# Altium footprint library Keypad 3x4.PcbLib: 1 footprints
Each footprint in its own frame and in the unit in brackets; x right, y up, seen from the top. Pads: shape width x height; smd on the part's side, far side on the other; paste and mask are expansions set on the pad; w line width, h text height; cw(c..) or ccw(c..) is an arc to the next point about the centre after c.
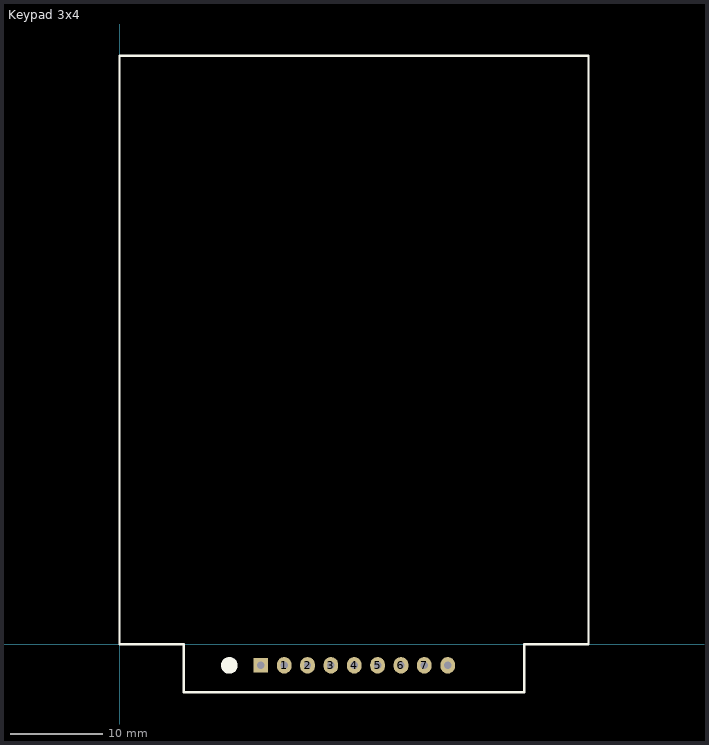
[diagram p0: the footprint, top view; thin cyan lines are the x and y axes]

## Keypad 3x4 [mm]
pads (9):
  oval 1.6x1.8 hole 0.8: 1(17.907,-2.286) 2(20.447,-2.286) 3(22.987,-2.286) 4(25.527,-2.286) 5(28.067,-2.286) 6(30.607,-2.286) 7(33.147,-2.286) ""(35.687,-2.286)
  rect 1.6x1.6 hole 0.8: ""(15.367,-2.286)
Top Overlay:
  circle w1: c11.938,-2.286 r0.402
  lines w0.254: 0,0 0,64 51,64 51,0 44,0 44,-5.2 7,-5.2 7,0 0,0